# EAGLE library part HEADER-1X10 (library io)
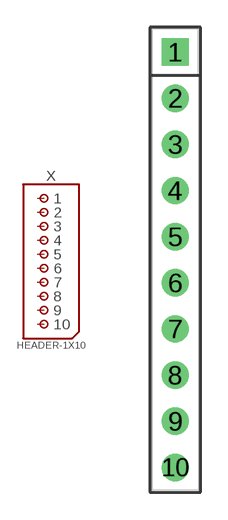
[diagram p0: symbol with the pads of 90120-0130; footprint 90120-0130]

Designator prefix X

## HEADER-1X10/MALE/100MIL/TH/BREAKAWAY (CIRCUITS: 10; EAGLEUP: HEADER_MALE_1X10;;; MFR: Molex; MPN: 90120-0130)  [90120-0130]
1  1
2  2
3  3
4  4
5  5
6  6
7  7
8  8
9  9
10  10

## Footprint 90120-0130 (pad centres in mm)
drill 1 square: 1 0,11.43
drill 1: 2 0,8.89; 3 0,6.35; 4 0,3.81; 5 0,1.27; 6 0,-1.27; 7 0,-3.81; 8 0,-6.35; 9 0,-8.89; 10 0,-11.43